# EAGLE library part CC1180-REF (library CC11x)
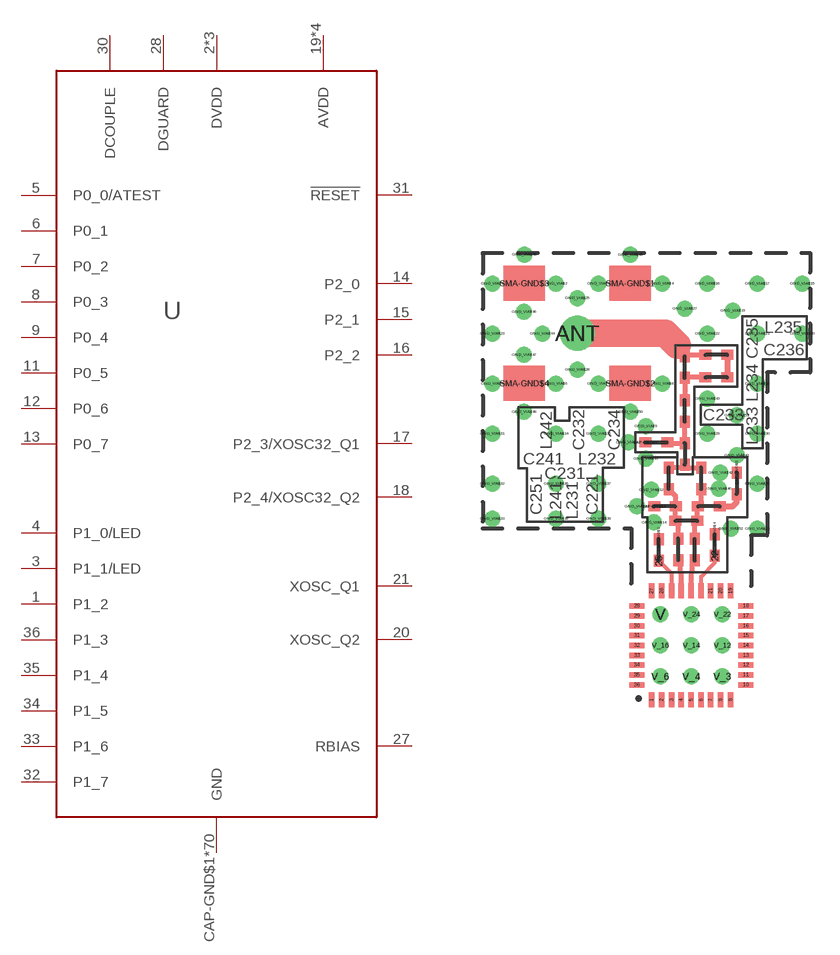
[diagram p2: symbol with the pads of CC1180-REF; footprint CC1180-REF]

Designator prefix -

## CC1180-REF  [CC1180-REF]
1  P1_2
2  DVDD  pwr
3  P1_1/LED
4  P1_0/LED
5  P0_0/ATEST
6  P0_1
7  P0_2
8  P0_3
9  P0_4
10  DVDD  pwr
11  P0_5
12  P0_6
13  P0_7
14  P2_0
15  P2_1
16  P2_2
17  P2_3/XOSC32_Q1
18  P2_4/XOSC32_Q2
19  AVDD  pwr
20  XOSC_Q2
21  XOSC_Q1
22  AVDD  pwr
25  AVDD  pwr
26  AVDD  pwr
27  RBIAS
28  DGUARD
29  DVDD  pwr
30  DCOUPLE
31  !RESET  in
32  P1_7
33  P1_6
34  P1_5
35  P1_4
36  P1_3
CAP-GND$1  GND  pwr
CAP-GND$2  GND  pwr
CAP-GND$3  GND  pwr
CAP-GND$4  GND  pwr
CAP-GND$5  GND  pwr
GND_VIA$1  GND  pwr
GND_VIA$2  GND  pwr
GND_VIA$3  GND  pwr
GND_VIA$4  GND  pwr
GND_VIA$5  GND  pwr
GND_VIA$6  GND  pwr
GND_VIA$7  GND  pwr
GND_VIA$8  GND  pwr
GND_VIA$9  GND  pwr
GND_VIA$10  GND  pwr
GND_VIA$11  GND  pwr
GND_VIA$12  GND  pwr
GND_VIA$13  GND  pwr
GND_VIA$14  GND  pwr
GND_VIA$15  GND  pwr
GND_VIA$16  GND  pwr
GND_VIA$17  GND  pwr
GND_VIA$18  GND  pwr
GND_VIA$19  GND  pwr
GND_VIA$20  GND  pwr
GND_VIA$21  GND  pwr
GND_VIA$22  GND  pwr
GND_VIA$23  GND  pwr
GND_VIA$24  GND  pwr
GND_VIA$25  GND  pwr
GND_VIA$26  GND  pwr
GND_VIA$27  GND  pwr
GND_VIA$28  GND  pwr
GND_VIA$29  GND  pwr
GND_VIA$30  GND  pwr
GND_VIA$31  GND  pwr
GND_VIA$32  GND  pwr
GND_VIA$33  GND  pwr
GND_VIA$34  GND  pwr
GND_VIA$35  GND  pwr
GND_VIA$36  GND  pwr
GND_VIA$37  GND  pwr
GND_VIA$38  GND  pwr
GND_VIA$39  GND  pwr
GND_VIA$40  GND  pwr
GND_VIA$41  GND  pwr
GND_VIA$42  GND  pwr
GND_VIA$43  GND  pwr
GND_VIA$44  GND  pwr
GND_VIA$45  GND  pwr
GND_VIA$46  GND  pwr
GND_VIA$47  GND  pwr
GND_VIA$48  GND  pwr
GND_VIA$49  GND  pwr
GND_VIA$50  GND  pwr
GND_VIA$51  GND  pwr
GND_VIA$52  GND  pwr
SMA-GND$1  GND  pwr
SMA-GND$2  GND  pwr
SMA-GND$3  GND  pwr
SMA-GND$4  GND  pwr
V  GND  pwr
V_3  GND  pwr
V_4  GND  pwr
V_6  GND  pwr
V_12  GND  pwr
V_14  GND  pwr
V_16  GND  pwr
V_22  GND  pwr
V_24  GND  pwr

## Footprint CC1180-REF (pad centres in mm)
smd 0.279 x 0.762: 1 6.833,-1.391; 2 7.341,-1.391; 3 7.849,-1.391; 4 8.331,-1.391; 5 8.839,-1.391; 6 9.347,-1.391; 7 9.83,-1.391; 8 10.338,-1.391; 9 10.846,-1.391; 19 10.846,4.147; 20 10.338,4.147; 21 9.83,4.147; 26 7.341,4.147; 27 6.833,4.147
smd 0.762 x 0.279: 10 11.608,-0.629; 11 11.608,-0.121; 12 11.608,0.387; 13 11.608,0.87; 14 11.608,1.378; 15 11.608,1.886; 16 11.608,2.369; 17 11.608,2.877; 18 11.608,3.385; 28 6.071,3.385; 29 6.071,2.877; 30 6.071,2.369; 31 6.071,1.886; 32 6.071,1.378; 33 6.071,0.87; 34 6.071,0.387; 35 6.071,-0.121; 36 6.071,-0.629
smd 0.508 x 0.61: 22 10.033,5.925; 25 7.188,5.671; CAP-GND$2 11.151,10.154; CAP-GND$3 7.188,6.775; CAP-GND$4 10.033,7.029
drill 0.7 pad 1.778: ANT 3.048,17.221
smd 0.61 x 0.508: CAP-GND$1 6.953,8.433; CAP-GND$5 6.509,11.684
drill 0.305 pad 0.508: GND_VIA$1 -1.27,19.748; GND_VIA$2 1.968,19.748; GND_VIA$3 4.128,19.748; GND_VIA$4 7.366,19.748; GND_VIA$5 -1.27,14.668; GND_VIA$6 1.968,14.668; GND_VIA$7 4.128,14.668; GND_VIA$8 7.366,14.668; GND_VIA$9 6.528,12.509; GND_VIA$10 6.528,10.858; GND_VIA$11 5.639,11.684; GND_VIA$12 6.807,9.271; GND_VIA$13 6.071,8.433; GND_VIA$14 6.947,7.62; GND_VIA$15 14.478,19.748; GND_VIA$16 9.652,19.748; GND_VIA$17 12.192,19.748; GND_VIA$18 12.192,14.668; GND_VIA$19 10.947,18.377; GND_VIA$20 14.478,17.209; GND_VIA$21 12.192,17.209; GND_VIA$22 9.652,17.209; GND_VIA$23 -1.27,17.209; GND_VIA$24 12.192,7.303; GND_VIA$25 3.048,19.012; GND_VIA$26 12.192,9.588; GND_VIA$27 8.509,18.479; GND_VIA$28 3.048,15.38; GND_VIA$29 9.652,12.129; GND_VIA$30 12.192,12.129; GND_VIA$31 -1.27,12.129; GND_VIA$32 -1.27,9.588; GND_VIA$33 -1.27,7.811; GND_VIA$34 1.968,12.129; GND_VIA$35 4.128,12.129; GND_VIA$36 1.968,9.588; GND_VIA$37 4.128,9.588; GND_VIA$38 1.968,7.811; GND_VIA$39 4.128,7.811; GND_VIA$40 10.249,9.335; GND_VIA$41 11.151,11.024; GND_VIA$42 10.325,10.147; GND_VIA$43 9.652,13.906; GND_VIA$44 1.27,17.209; GND_VIA$45 0.356,21.222; GND_VIA$46 0.343,18.313; GND_VIA$47 0.343,16.129; GND_VIA$48 0.343,13.233; GND_VIA$49 5.74,21.209; GND_VIA$50 5.753,13.233; GND_VIA$51 11.151,13.056; GND_VIA$52 10.846,7.303
smd 2.108 x 1.778: SMA-GND$1 5.74,19.761; SMA-GND$2 5.74,14.681; SMA-GND$3 0.356,19.761; SMA-GND$4 0.356,14.681
drill 0.305: V 7.264,2.953; V_3 10.414,-0.197; V_4 8.839,-0.197; V_6 7.264,-0.197; V_12 10.414,1.378; V_14 8.839,1.378; V_16 7.264,1.378; V_22 10.414,2.953; V_24 8.839,2.953